# Altium footprint library BlinkBoard_micro.PcbLib: 7 footprints
Each footprint in its own frame and in the unit in brackets; x right, y up, seen from the top. Pads: shape width x height; smd on the part's side, far side on the other; paste and mask are expansions set on the pad; w line width, h text height; cw(c..) or ccw(c..) is an arc to the next point about the centre after c.
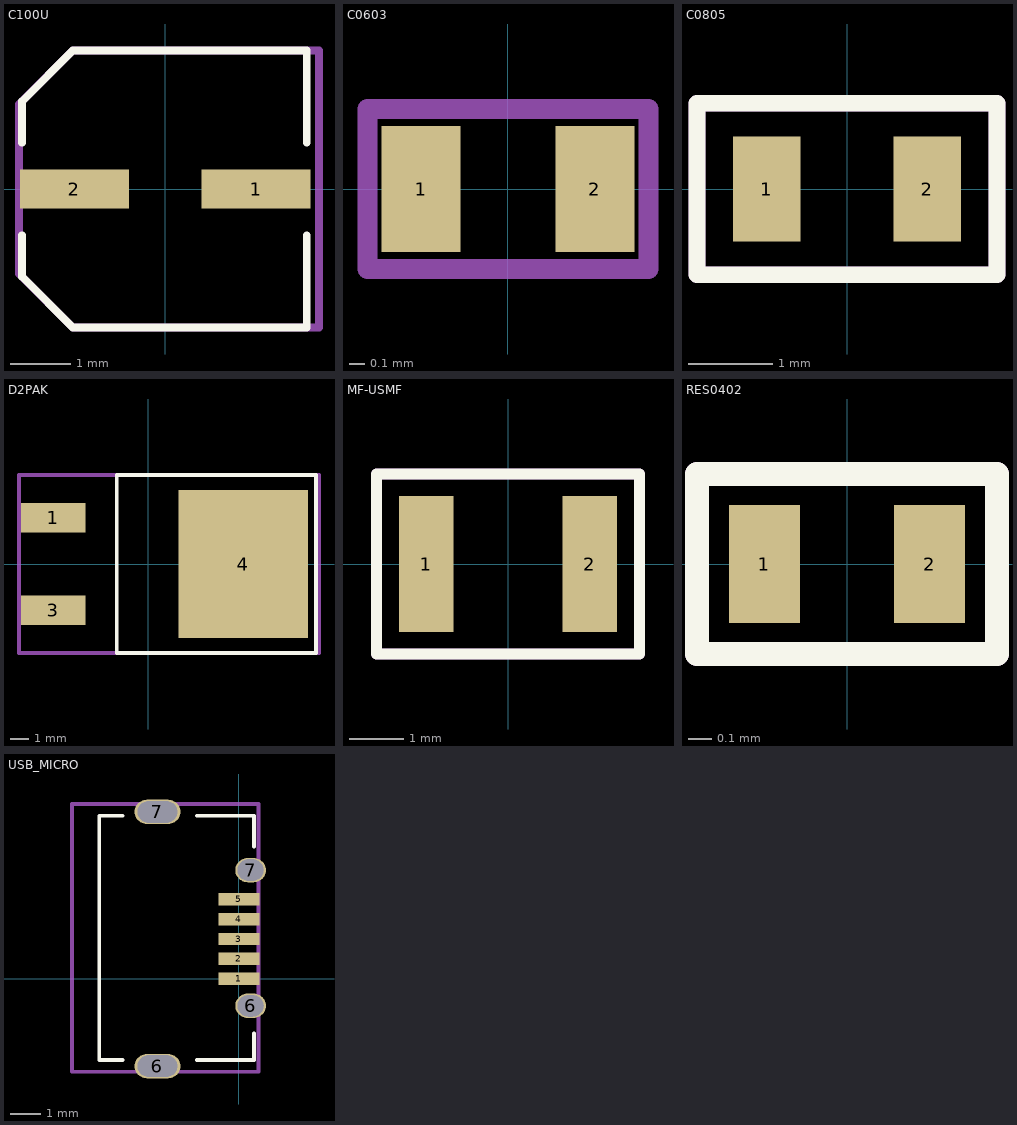
[diagram p0: the footprints below, top view; thin cyan lines are the x and y axes]

## C100U [mm]
pads (2):
  rect 1.8x0.65 smd: 1(1.5,0) 2(-1.5,0)
Top Overlay:
  lines w0.127: -2.362,-0.762 -2.362,-1.448 -1.524,-2.286 2.337,-2.286 2.337,-0.762 ; -2.362,0.762 -2.362,1.448 -1.524,2.286 2.337,2.286 2.337,0.762
Assembly:
  lines w0.127: -2.413,-1.397 -1.524,-2.286 2.54,-2.286 2.54,2.286 -1.524,2.286 -2.413,1.397 -2.413,-1.397
  text "'.Designator'" at -0.381,-0.381 h0.64
3D body "猞4 SIZE CODE B.stp": height 5.81, standoff 0.01, extent -2.5,-2.15 2.5,2.15

## C0603 [mm]
pads (2):
  rect 0.5x0.8 smd mask+0.102: 1(-0.55,0) 2(0.55,0)
Assembly:
  lines w0.127: -0.889,-0.508 -0.889,0.508 0.889,0.508 0.889,-0.508 -0.889,-0.508
  text "'.Designator'" at -0.254,-0.254 h0.5
3D body "CircuitWorks-RESISTOR 0603.step": height 0.52, standoff 0.01, extent -0.8,-0.43 0.8,0.43

## C0805 [mm]
pads (2):
  rect 0.8x1.25 smd mask+0.102: 1(-0.95,0) 2(0.95,0)
Top Overlay:
  lines w0.2: -1.778,-1.016 -1.778,1.016 1.778,1.016 1.778,-1.016 -1.778,-1.016
Assembly:
  lines w0.2: -1.778,-1.016 1.778,-1.016 1.778,1.016 -1.778,1.016 -1.778,-1.016
  text "'.Designator'" at -0.889,-0.254 h0.5
3D body "C805.STEP": height 0.74, standoff -0.02, extent -1,-0.655 1,0.655

## D2PAK [mm]
pads (3):
  rect 3.5x1.6 smd: 1(-5.15,2.5) 3(-5.15,-2.5)
  rect 7x8 smd: 4(5.15,0)
Top Overlay:
  lines w0.2: -1.703,-4.826 0.924,-4.826 9.092,-4.826 9.092,4.826 -1.703,4.826 -1.703,-4.826
Assembly:
  lines w0.2: -7,-4.826 9.25,-4.826 9.25,4.826 -7,4.826 -7,-4.826
  text "'.Designator'" at -1.576,-0.762 h1.52
3D body "d2pak.step": height 4.78, standoff -0.24, extent -6.666,-5.08 8.597,5.08

## MF-USMF [mm]
pads (2):
  rect 1x2.5 smd: 1(-1.5,0) 2(1.5,0)
Top Overlay:
  lines w0.2: -2.413,-1.651 -2.413,1.651 2.413,1.651 2.413,-1.651 -2.413,-1.651
Assembly:
  lines w0.2: -2.413,-1.651 2.413,-1.651 2.413,1.651 -2.413,1.651 -2.413,-1.651
  text "'.Designator'" at -2.032,-1.016 h0.8
3D body "mf-usmf005.stp": height 0.96, standoff 0.01, extent -1.607,-1.287 1.607,1.288

## RES0402 [mm]
pads (2):
  rect 0.3x0.5 smd mask+0.02: 1(-0.35,0) 2(0.35,0)
Top Overlay:
  lines w0.1: -0.635,-0.381 0.635,-0.381 0.635,0.381 -0.635,0.381 -0.635,-0.381
Assembly:
  lines w0.1: -0.635,-0.381 0.635,-0.381 0.635,0.381 -0.635,0.381 -0.635,-0.381
  text "'.Designator'" at -0.381,-0.254 h0.5
3D body "res0402.step": height 0.25, standoff 0, extent -0.5,-0.25 0.5,0.25

## USB_MICRO [mm]
pads (9):
  rect 1.35x0.4 smd mask+0.102: 1(0,0) 2(0,0.65) 3(0,1.3) 4(0,1.95) 5(0,2.6)
  oval 1.5x0.8 hole 0.7 slot 1.3 at 0 deg: 6(-2.667,-2.861) 7(-2.667,5.461)
  oval 1x0.8 hole 0.7 slot 0.85 at 0 deg: 6(0.381,-0.889) 7(0.381,3.556)
Top Overlay:
  lines w0.127: -3.81,-2.667 -4.572,-2.667 -4.572,-0.381 -4.572,2.921 -4.572,5.334 -3.81,5.334 ; -1.379,-2.667 0.492,-2.667 0.492,-1.794 ; -1.379,5.334 0.492,5.334 0.492,4.334
Assembly:
  lines w0.127: -5.461,-3.048 -5.461,5.715 0.635,5.715 0.635,-3.048 -5.461,-3.048
  text ".Designator'" at -3.556,1.143 h1.02
3D body "475901001.stp": height 2.74, standoff -0.61, extent -5.37,-3.009 0.53,5.641